# Altium schematic symbol library LCD.SchLib: 8 symbols
Pins are listed as number, name and electrical type; pins without a type are passive.

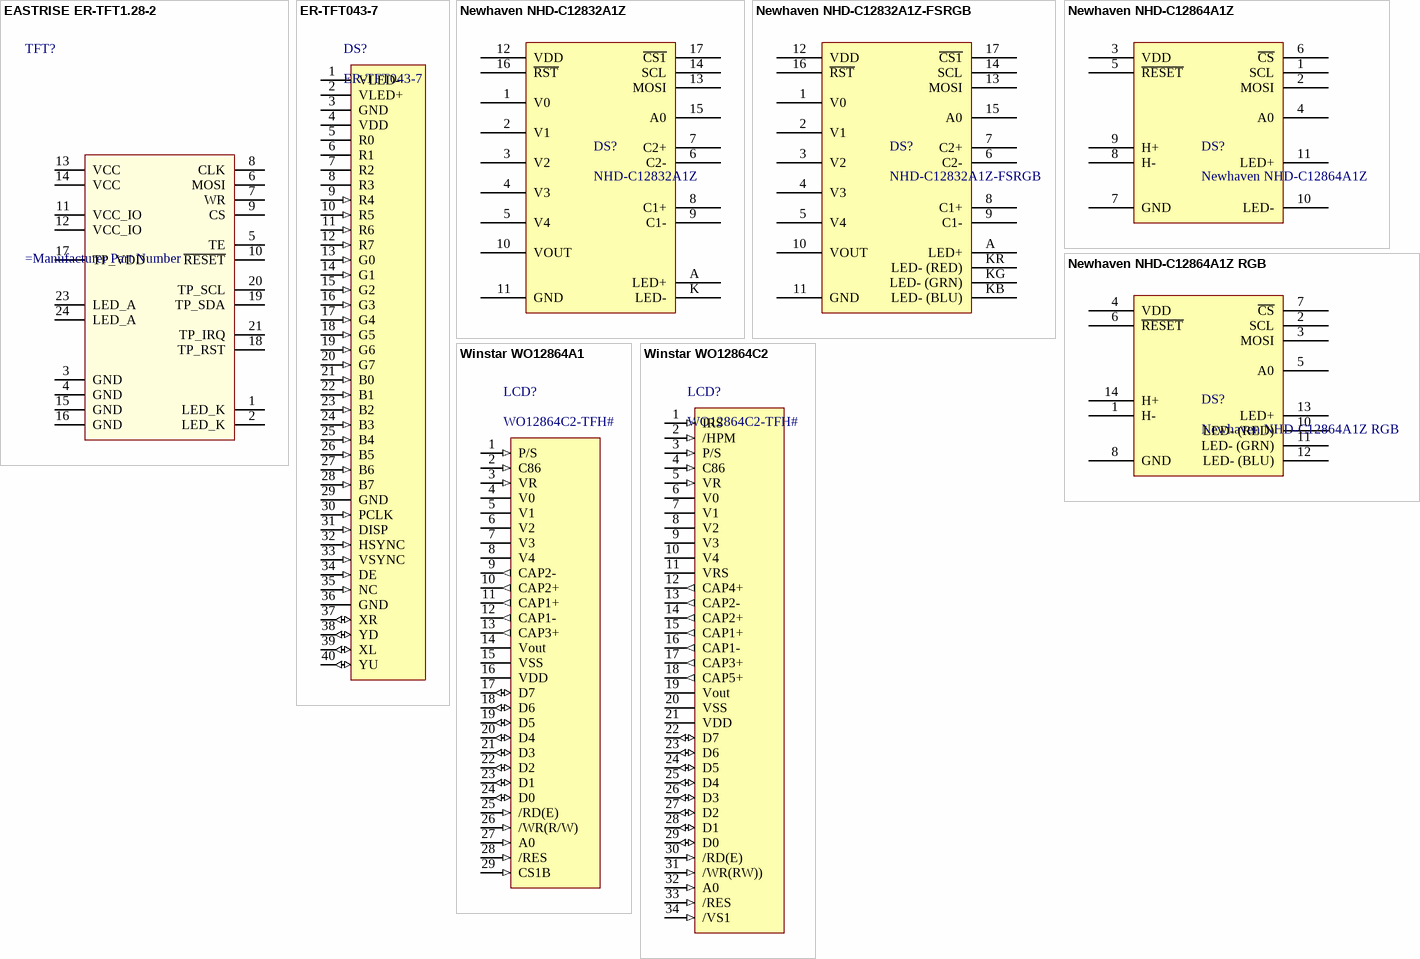
[diagram p0: symbols EASTRISE ER-TFT1.28-2 to Winstar WO12864C2]

## EASTRISE ER-TFT1.28-2
designator TFT?
ER-TFT1.28-2 TFT LCD Display Datasheet
footprint EASTRISE ER-TFT1.28-2 (EASTRISE ER-TFT 1.3" Round TFT Display)
pins: 1 LED_K, 2 LED_K, 3 GND, 4 GND, 5 TE, 6 MOSI, 7 WR, 8 CLK, 9 CS, 10 ~{RESET}, 11 VCC_IO, 12 VCC_IO, 13 VCC, 14 VCC, 15 GND, 16 GND, 17 TP_VDD, 18 TP_RST, 19 TP_SDA, 20 TP_SCL, 21 TP_IRQ, 23 LED_A, 24 LED_A

## ER-TFT043-7
designator DS?
4.3 inch 800x480 TFT LCD Module; Manufacturer: Buydisplay.com Rising East; Price 1: *
pins: 1 VLED-, 2 VLED+, 3 GND, 4 VDD (power), 5 R0 (power), 6 R1 (power), 7 R2 (power), 8 R3 (power), 9 R4 (in), 10 R5 (in), 11 R6 (in), 12 R7 (in), 13 G0 (in), 14 G1 (in), 15 G2 (in), 16 G3 (in), 17 G4 (in), 18 G5 (in), 19 G6 (in), 20 G7 (in), 21 B0 (in), 22 B1 (in), 23 B2 (in), 24 B3 (in), 25 B4 (in), 26 B5 (in), 27 B6 (in), 28 B7 (in), 29 GND (power), 30 PCLK (in), 31 DISP (in), 32 HSYNC (in), 33 VSYNC (in), 34 DE (in), 35 NC (in), 36 GND (power), 37 XR (io), 38 YD (io), 39 XL (io), 40 YU (io)

## Newhaven NHD-C12832A1Z
designator DS?, comment NHD-C12832A1Z
COG (Chip-On-Glass) Liquid Crystal Display Module
pins: 1 V0, 2 V1, 3 V2, 4 V3, 5 V4, 6 C2-, 7 C2+, 8 C1+, 9 C1-, 10 VOUT, 11 GND, 12 VDD, 13 MOSI, 14 SCL, 15 A0, 16 ~{RST}, 17 ~{CS1}, A LED+, K LED-

## Newhaven NHD-C12832A1Z-FSRGB
designator DS?, comment NHD-C12832A1Z-FSRGB
COG (Chip-On-Glass) Liquid Crystal Display Module
pins: 1 V0, 2 V1, 3 V2, 4 V3, 5 V4, 6 C2-, 7 C2+, 8 C1+, 9 C1-, 10 VOUT, 11 GND, 12 VDD, 13 MOSI, 14 SCL, 15 A0, 16 ~{RST}, 17 ~{CS1}, A LED+, KB LED- (BLU), KG LED- (GRN), KR LED- (RED)

## Newhaven NHD-C12864A1Z
designator DS?
COG (Chip-On-Glass) Liquid Crystal Display Module
pins: 1 SCL, 2 MOSI, 3 VDD, 4 A0, 5 ~{RESET}, 6 ~{CS}, 7 GND, 8 H-, 9 H+, 10 LED-, 11 LED+

## Newhaven NHD-C12864A1Z RGB
designator DS?
COG (Chip-On-Glass) Liquid Crystal Display Module
pins: 1 H-, 2 SCL, 3 MOSI, 4 VDD, 5 A0, 6 ~{RESET}, 7 ~{CS}, 8 GND, 10 LED- (RED), 11 LED- (GRN), 12 LED- (BLU), 13 LED+, 14 H+

## Winstar WO12864A1
designator LCD?, comment WO12864C2-TFH#
Supplier: Özdisan; Price: 9,14760; Value: WO12864C2-TFH#; Doc: https://img.ozdisan.com/ETicaret_Dosya/340209_4006962.pdf; Component Link 1: https://www.ozdisan.com/tft-lcd-led-displayler/lcd/cog-lcd/WO12864C2-TFH
footprint FPC-29 (29 way 0.5 pitch FPC Connector)
pins: 1 P/S (in), 2 C86 (in), 3 VR (in), 4 V0 (power), 5 V1 (power), 6 V2 (power), 7 V3 (power), 8 V4 (power), 9 CAP2- (out), 10 CAP2+ (out), 11 CAP1+ (out), 12 CAP1- (out), 13 CAP3+ (out), 14 Vout (power), 15 VSS (power), 16 VDD (power), 17 D7 (io), 18 D6 (io), 19 D5 (io), 20 D4 (io), 21 D3 (io), 22 D2 (io), 23 D1 (io), 24 D0 (io), 25 /RD(E) (in), 26 /WR(R/W) (in), 27 A0 (in), 28 /RES (in), 29 CS1B (in)

## Winstar WO12864C2
designator LCD?, comment WO12864C2-TFH#
Supplier: Özdisan; Price: 9,14760; Value: WO12864C2-TFH#; Doc: https://img.ozdisan.com/ETicaret_Dosya/340209_4006962.pdf; Component Link 1: https://www.ozdisan.com/tft-lcd-led-displayler/lcd/cog-lcd/WO12864C2-TFH
footprint Amphenol SFV34R-3STBE1HLF (34 way 0.5 pitch FPC Connector)
pins: 1 IRS (in), 2 /HPM (in), 3 P/S (in), 4 C86 (in), 5 VR (in), 6 V0 (power), 7 V1 (power), 8 V2 (power), 9 V3 (power), 10 V4 (power), 11 VRS (power), 12 CAP4+ (out), 13 CAP2- (out), 14 CAP2+ (out), 15 CAP1+ (out), 16 CAP1- (out), 17 CAP3+ (out), 18 CAP5+ (out), 19 Vout (power), 20 VSS (power), 21 VDD (power), 22 D7 (io), 23 D6 (io), 24 D5 (io), 25 D4 (io), 26 D3 (io), 27 D2 (io), 28 D1 (io), 29 D0 (io), 30 /RD(E) (in), 31 /WR(RW)) (in), 32 A0 (in), 33 /RES (in), 34 /VS1 (in)